# EAGLE library part SFV15R-1STE1HLF (library CONNECTORs)
15 Position FFC, FPC Connector Contacts, Bottom 0.020" (0.50mm) Surface Mount, Right Angle
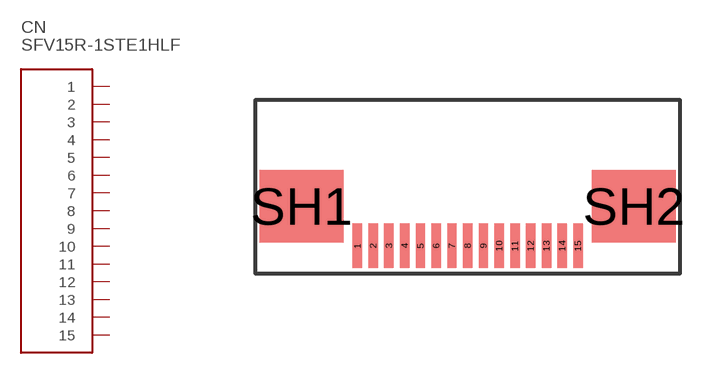
[diagram p51: symbol with the pads of SFV15R-1STE1HLF; footprint SFV15R-1STE1HLF]

Designator prefix CN

## SFV15R-1STE1HLF (DIGIKEY: 609-4311-1-ND; HEIGHT: 1.8; PRICE_PER: 0.46; VALUE: 15PIN 0.5MM)  [SFV15R-1STE1HLF]
1  1
2  2
3  3
4  4
5  5
6  6
7  7
8  8
9  9
10  10
11  11
12  12
13  13
14  14
15  15

## Footprint SFV15R-1STE1HLF (pad centres in mm)
smd 0.3 x 1.4: 1 -3.5,-1.875; 2 -3,-1.875; 3 -2.5,-1.875; 4 -2,-1.875; 5 -1.5,-1.875; 6 -1,-1.875; 7 -0.5,-1.875; 8 0,-1.875; 9 0.5,-1.875; 10 1,-1.875; 11 1.5,-1.875; 12 2,-1.875; 13 2.5,-1.875; 14 3,-1.875; 15 3.5,-1.875
smd 2.65 x 2.3: SH1 -5.275,-0.625; SH2 5.275,-0.625